# Altium footprint library EReference-PCB.PcbLib: 54 footprints (part 4 of 4)
Each footprint in its own frame and in the unit in brackets; x right, y up, seen from the top. Pads: shape width x height; smd on the part's side, far side on the other; paste and mask are expansions set on the pad; w line width, h text height; cw(c..) or ccw(c..) is an arc to the next point about the centre after c.
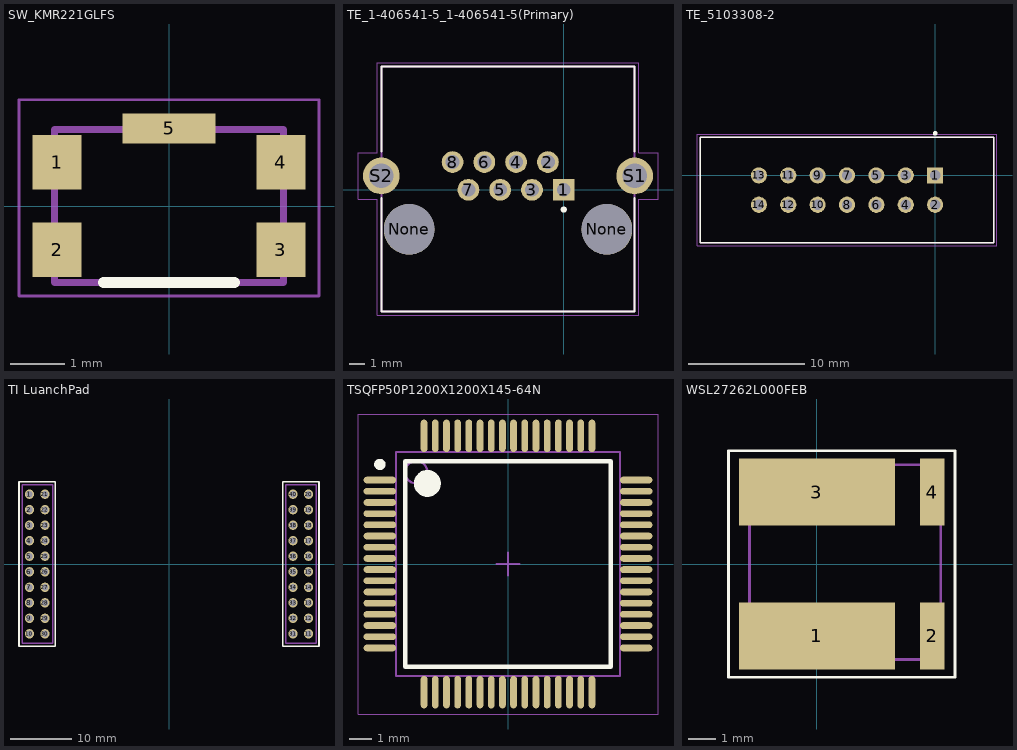
[diagram p3: the footprints below, top view; thin cyan lines are the x and y axes]

## SW_KMR221GLFS [mm]
pads (5):
  rect 0.9x1 smd: 1(-2.05,0.8) 2(-2.05,-0.8) 3(2.05,-0.8) 4(2.05,0.8)
  rect 1.7x0.55 smd: 5(0,1.425)
Top Overlay:
  lines w0.2: -1.2,-1.4 1.2,-1.4
Assembly:
  lines w0.127: -2.1,-1.4 -2.1,1.4 ; -2.1,-1.4 2.1,-1.4 ; -2.1,-1.4 -2.1,1.4 ; -2.1,-1.4 2.1,-1.4 ; -2.1,1.4 2.1,1.4 ; -2.1,1.4 2.1,1.4 ; 2.1,-1.4 2.1,1.4 ; 2.1,-1.4 2.1,1.4
Mechanical 15:
  lines w0.05: -2.75,-1.65 -2.75,1.95 2.75,1.95 2.75,-1.65 -2.75,-1.65

## TE_1-406541-5_1-406541-5(Primary) [mm]
pads (12):
  rect 1.398x1.398 hole 0.89: 1(0,0)
  round 1.398 hole 0.89: 2(-1.02,1.78) 3(-2.04,0) 4(-3.06,1.78) 5(-4.08,0) 6(-5.1,1.78) 7(-6.12,0) 8(-7.14,1.78)
  round 3.25 hole 3.25 unplated: None(-9.93,-2.54) None(2.77,-2.54)
  round 2.355 hole 1.57: S1(4.55,0.89) S2(-11.71,0.89)
Top Overlay:
  circle w0.2: c0,-1.27 r0.1
  lines w0.127: -11.71,-0.54 -11.71,-7.82 4.55,-7.82 4.55,-0.54 ; -11.71,2.46 -11.71,7.92 4.55,7.92 4.55,2.46
Assembly:
  lines w0.127: -11.71,-7.82 4.55,-7.82 ; -11.71,-7.82 -11.71,7.92 ; -11.71,-7.82 4.55,-7.82 ; -11.71,-7.82 -11.71,7.92 ; -11.71,7.92 4.55,7.92 ; -11.71,7.92 4.55,7.92 ; 4.55,-7.82 4.55,7.92 ; 4.55,-7.82 4.55,7.92
Mechanical 15:
  lines w0.05: -13.21,-0.61 -11.96,-0.61 -11.96,-8.07 4.8,-8.07 4.8,-0.61 6.05,-0.61 6.05,2.39 4.8,2.39 4.8,8.17 -11.96,8.17 -11.96,2.39 -13.21,2.39 -13.21,-0.61

## TE_5103308-2 [mil]
pads (14):
  rect 55x55 hole 35: 1(0,0)
  round 55 hole 35: 2(0,-100) 3(-100,0) 4(-100,-100) 5(-200,0) 6(-200,-100) 7(-300,0) 8(-300,-100) 9(-400,0) 10(-400,-100) 11(-500,0) 12(-500,-100) 13(-600,0) 14(-600,-100)
Top Overlay:
  circle w7.87: c-0.12,142.99 r3.94
  lines w5: -800,-230 200,-230 200,130 -800,130 -800,-230
Assembly:
  lines w5: -800,-230 200,-230 ; -800,-230 -800,130 ; -800,-230 200,-230 ; -800,-230 -800,130 ; -800,130 200,130 ; -800,130 200,130 ; 200,-230 200,130 ; 200,-230 200,130
Mechanical 15:
  lines w1.97: -810.63,-239.76 -810.63,139.76 210.63,139.76 210.63,-239.76 -810.63,-239.76

## TI LuanchPad [mil] "Fits ti LuanchPad"
pads (40):
  round 60 hole 40 mask+3: 1(-900,450) 2(-900,350) 3(-900,250) 4(-900,150) 5(-900,50) 6(-900,-50) 7(-900,-150) 8(-900,-250) 9(-900,-350) 10(-900,-450) 11(900,-450) 12(900,-350) 13(900,-250) 14(900,-150) 15(900,-50) 16(900,50) 17(900,150) 18(900,250) 19(900,350) 20(900,450) 21(-800,450) 22(-800,350) 23(-800,250) 24(-800,150) 25(-800,50) 26(-800,-50) 27(-800,-150) 28(-800,-250) 29(-800,-350) 30(-800,-450) 31(800,-450) 32(800,-350) 33(800,-250) 34(800,-150) 35(800,-50) 36(800,50) 37(800,150) 38(800,250) 39(800,350) 40(800,450)
Top Overlay:
  lines w10: -967.5,-530 -967.5,530 -732.5,530 -732.5,-530 -967.5,-530 ; 732.5,-530 732.5,530 967.5,530 967.5,-530 732.5,-530
Mechanical 1:
  lines w10: -947.5,-510 -947.5,510 -750,510 -750,-510 -947.5,-510 ; 752.5,-510 752.5,510 950,510 950,-510 752.5,-510
  text "J1" at -844.21,-7.57 h30
  text "J1" at 855.79,-7.57 h30
3D body "SSW-110-23-F-D.stp": height 335, standoff -394, extent -951.01,-509.99 -756.01,510.01
3D body "SSW-110-23-F-D.stp": height 335, standoff -394, extent 748.99,-509.99 943.99,510.01

## TSQFP50P1200X1200X145-64N [mm] "TSQFP, 64-Leads, Body 10.00x10.00mm, Pitch 0.50mm, IPC Medium Density"
height 1.45
pads (64):
  oval 1.45x0.3 smd: 1(-5.725,3.75) 2(-5.725,3.25) 3(-5.725,2.75) 4(-5.725,2.25) 5(-5.725,1.75) 6(-5.725,1.25) 7(-5.725,0.75) 8(-5.725,0.25) 9(-5.725,-0.25) 10(-5.725,-0.75) 11(-5.725,-1.25) 12(-5.725,-1.75) 13(-5.725,-2.25) 14(-5.725,-2.75) 15(-5.725,-3.25) 16(-5.725,-3.75) 33(5.725,-3.75) 34(5.725,-3.25) 35(5.725,-2.75) 36(5.725,-2.25) 37(5.725,-1.75) 38(5.725,-1.25) 39(5.725,-0.75) 40(5.725,-0.25) 41(5.725,0.25) 42(5.725,0.75) 43(5.725,1.25) 44(5.725,1.75) 45(5.725,2.25) 46(5.725,2.75) 47(5.725,3.25) 48(5.725,3.75)
  oval 0.3x1.45 smd: 17(-3.75,-5.725) 18(-3.25,-5.725) 19(-2.75,-5.725) 20(-2.25,-5.725) 21(-1.75,-5.725) 22(-1.25,-5.725) 23(-0.75,-5.725) 24(-0.25,-5.725) 25(0.25,-5.725) 26(0.75,-5.725) 27(1.25,-5.725) 28(1.75,-5.725) 29(2.25,-5.725) 30(2.75,-5.725) 31(3.25,-5.725) 32(3.75,-5.725) 49(3.75,5.725) 50(3.25,5.725) 51(2.75,5.725) 52(2.25,5.725) 53(1.75,5.725) 54(1.25,5.725) 55(0.75,5.725) 56(0.25,5.725) 57(-0.25,5.725) 58(-0.75,5.725) 59(-1.25,5.725) 60(-1.75,5.725) 61(-2.25,5.725) 62(-2.75,5.725) 63(-3.25,5.725) 64(-3.75,5.725)
Top Overlay:
  circle w0.6: c-3.6,3.6 r0.3
  circle w0.25: c-5.725,4.45 r0.125
  lines w0.2: -4.6,-4.6 4.6,-4.6 4.6,4.6 -4.6,4.6 -4.6,-4.6
Assembly:
  circle w0.1: c-4.1,4.1 r0.5
  lines w0.1: -5,-5 5,-5 5,5 -5,5 -5,-5
Mechanical 15:
  lines w0.05: -6.7,-6.7 6.7,-6.7 6.7,6.7 -6.7,6.7 -6.7,-6.7
  lines w0.1: -0.5,0 0.5,0 ; 0,-0.5 0,0.5
3D body "TSQFP50P1200X1200X145-64N.step": height 1.45, standoff 0, extent -6,-6 6,6

## WSL27262L000FEB [mm] "Precision current sense resistor"
pads (4):
  rect 5.6x2.4 smd: 1(0,-2.58) 3(0,2.58)
  rect 0.89x2.4 smd: 2(4.135,-2.58) 4(4.135,2.58)
Top Overlay:
  lines w0.1: -3.175,-4.064 -3.175,4.064 4.953,4.064 4.953,-4.064 -3.175,-4.064
Assembly:
  lines w0.1: -2.413,-3.429 -2.413,3.556 -2.159,3.556 4.445,3.556 4.445,-3.429 -2.413,-3.429
  text "'.Designator'String" at -1.778,0.127 h0.8
3D body "WSL2726 (0.0013).step": height 2.68, standoff 0, extent -2.15,-3.45 4.45,3.45